# EAGLE library part ADS1100 (library bytewerk-analog)
16-Bit ANALOG-TO-DIGITAL CONVERTER, I2C
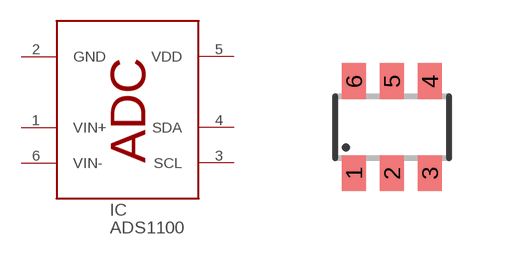
[diagram p5: symbol with the pads of SOT23-6; footprint SOT23-6]

Designator prefix IC

## ADS1100 (MF: TI; MPN: ADS1100; OC_MOUSER: 595-ADS1100A1IDBVT)  [SOT23-6]
1  VIN+  in
2  GND  pwr
3  SCL  in
4  SDA
5  VDD  pwr
6  VIN-  in

## Footprint SOT23-6 (pad centres in mm)
Small Outline Transistor 6 lead
smd 0.6 x 0.9: 1 -0.95,-1.15; 2 0,-1.15; 3 0.95,-1.15; 4 0.95,1.15; 5 0,1.15; 6 -0.95,1.15